# EAGLE library part ESP32-C3-DEVKITC-02U (library ESP32-C3-DEVKITC-02U)
Check availability <https://pricing.snapeda.com/parts/ESP32-C3-DEVKITC-02U/Espressif%20Systems/view-part?ref=eda>
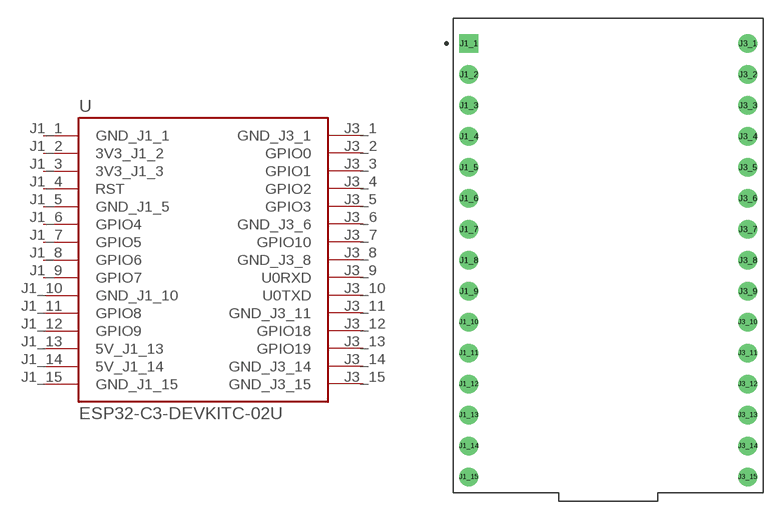
[diagram p0: symbol with the pads of MODULE_ESP32-C3-DEVKITC-02U; footprint MODULE_ESP32-C3-DEVKITC-02U]

Designator prefix U

## ESP32-C3-DEVKITC-02U (Availability: In Stock; Check_prices: https://www.snapeda.com/parts/ESP32-C3-DEVKITC-02U/Espressif+Systems/view-part/?ref=eda; Description: The ESP32-C3-DEVKITC-02U transceiver evaluation board by Espressif Systems is a development tool designed for RF, RFID, and wireless applications, ideal for modern IoT projects. It features a 32-bit RISC-V single-core processor running at 160MHz, with 400KB SRAM and 384KB ROM. The board supports 802.11 b/g/n Wi-Fi and Bluetooth (BLE) at 2.4GHz, offering reliable wireless connectivity. With 22 GPIO pins, 3 x SPI, 2 x UART, I2C, I2S, RMT, LED PWM, USB Serial/JTAG, GDMA, TWAI, and a 12-bit ADC, this board provides I/O options for various network and sensor integrations.; MF: Espressif Systems; MP: ESP32-C3-DEVKITC-02U; Package: None; Price: None; SnapEDA_Link: https://www.snapeda.com/parts/ESP32-C3-DEVKITC-02U/Espressif+Systems/view-part/?ref=snap)  [MODULE_ESP32-C3-DEVKITC-02U]
J1_1  GND_J1_1  pwr
J1_2  3V3_J1_2  pwr
J1_3  3V3_J1_3  pwr
J1_4  RST  in
J1_5  GND_J1_5  pwr
J1_6  GPIO4
J1_7  GPIO5
J1_8  GPIO6
J1_9  GPIO7
J1_10  GND_J1_10  pwr
J1_11  GPIO8
J1_12  GPIO9
J1_13  5V_J1_13  pwr
J1_14  5V_J1_14  pwr
J1_15  GND_J1_15  pwr
J3_1  GND_J3_1  pwr
J3_2  GPIO0
J3_3  GPIO1
J3_4  GPIO2
J3_5  GPIO3
J3_6  GND_J3_6  pwr
J3_7  GPIO10
J3_8  GND_J3_8  pwr
J3_9  U0RXD
J3_10  U0TXD
J3_11  GND_J3_11  pwr
J3_12  GPIO18
J3_13  GPIO19
J3_14  GND_J3_14  pwr
J3_15  GND_J3_15  pwr

## Footprint MODULE_ESP32-C3-DEVKITC-02U (pad centres in mm)
drill 1.016 square: J1_1 -11.43,17.395
drill 1.016: J1_2 -11.43,14.855; J1_3 -11.43,12.315; J1_4 -11.43,9.775; J1_5 -11.43,7.235; J1_6 -11.43,4.695; J1_7 -11.43,2.155; J1_8 -11.43,-0.385; J1_9 -11.43,-2.925; J1_10 -11.43,-5.465; J1_11 -11.43,-8.005; J1_12 -11.43,-10.545; J1_13 -11.43,-13.085; J1_14 -11.43,-15.625; J1_15 -11.43,-18.165; J3_1 11.43,17.395; J3_2 11.43,14.855; J3_3 11.43,12.315; J3_4 11.43,9.775; J3_5 11.43,7.235; J3_6 11.43,4.695; J3_7 11.43,2.155; J3_8 11.43,-0.385; J3_9 11.43,-2.925; J3_10 11.43,-5.465; J3_11 11.43,-8.005; J3_12 11.43,-10.545; J3_13 11.43,-13.085; J3_14 11.43,-15.625; J3_15 11.43,-18.165